# Altium schematic symbol library Sheet1.SCHLIB: 11 symbols
Pins are listed as number, name and electrical type; pins without a type are passive.

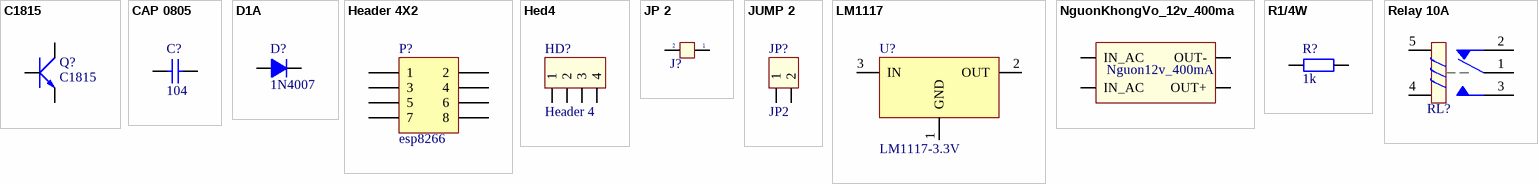
[diagram p0: symbols C1815 to Relay 10A]

## C1815
designator Q?
NPN 600mW, ECB; Value: C1815
footprint QTO-92 (TO-92)
footprint SOT23B (SOT 23B)
footprint TRAN-LOWPOWER (TO, Flat Index; 3 In-Line, Axial Leads; Body Dia. 4.5mm; Leads 0.51 x 0.48 mm (max))
pins: 1 E, 2 C, 3 B

## CAP 0805
designator C?, comment 104
footprint 0805_MH (Compoment SMD 80x50mil)
pins: 1, 2

## D1A
designator D?, comment 1N4007
Diode 1A; Value: 1N4007
footprint Diode zenner
footprint D2A (Diode 2A, W 150mil, L 450mil)
footprint SMB
pins: 1 A, 2 K

## Header 4X2
designator P?, comment esp8266
Header, 4-Pin, Dual row; LatestRevisionDate: 17-Jul-2002; LatestRevisionNote: Re-released for DXP Platform.; Publisher: Altium Limited
footprint HDR2X4 (Connector; Header; 4x2 Position)
signal-integrity model Connector
pins: 1, 2, 3, 4, 5, 6, 7, 8

## Hed4
designator HD?, comment Header 4
Header 4 (Green); Value: Header 4
footprint Jumper 4
footprint HED4T (Header 4, 4 pin, hight 300mil, Pin to Pin 200, Colour Green)
footprint HED4B (Header 4, 4 pin, hight 300mil, Pin to Pin 150, Colour White)
pins: 1, 2, 3, 4

## JP 2
designator J?, comment Jumper 2  (value not drawn)
Value: JP 2
footprint JP2
footprint jp2h
pins: 1, 2

## JUMP 2
designator JP?, comment JP2
JUMP DON DUC 2.54; Value: Connector 2
footprint CON 2 (Header 2, 2 pin, hight 300mil, Pin to Pin 200, Colour Green)
pins: 1, 2

## LM1117
designator U?, comment LM1117-3.3V
800mA Low-Dropout Linear Regulator; Creator: Nguyen Ba Bien; Website: http://group3i.net
footprint LM1117-SOP
footprint SOT223-4N (SOT223, 4-Leads, Body 6.5x3.5mm, Pitch 2.3mm, Lead Span 7mm, IPC Medium Density)
pins: 1 GND, 2 OUT, 3 IN

## NguonKhongVo_12v_400ma
designator NguonKhongVo_?  (value not drawn)
Value: Header 4
footprint BUCK3A (BUCK3A,BOOST XL6009)
footprint BUCK3AMINI
footprint BUCK5A
footprint BUCKLM2596LED
footprint NguonKhongVo_12V_400mA
footprint BOOSTMINI
footprint LM317
pins: 1 IN_AC, 2 IN_AC, 3 OUT+, 4 OUT-
text: Nguon12v_400mA

## R1/4W
designator R?, comment 1k
Resistor 1/4W; Value: R1/4W - 1K
footprint R1/4W (R 1/4W, 2 Pin, 350mil)
footprint R1/8W (R 1/8W, 2 pin, 300mil)
footprint R1/2W (R 1/2W, 2 pin, 400mil)
footprint R1/4WD (R 1/4W, 2 Pin, 150mil)
footprint 0805_MH (Compoment SMD 80x50mil)
footprint 1206_MH (Compoment SMD 120x60mil)
pins: 1, 2

## Relay 10A
designator RL?, comment Relay ?V - 10A  (value not drawn)
Relay SPDT,10A - 12VDC 5 Pin
footprint RELAY5PIN-10A
footprint RELAY5PIN-10A
pins: 1, 2, 3, 4, 5